# EAGLE library part CK1026 (library custom)
3 Poles 4 Ways Rotary switch
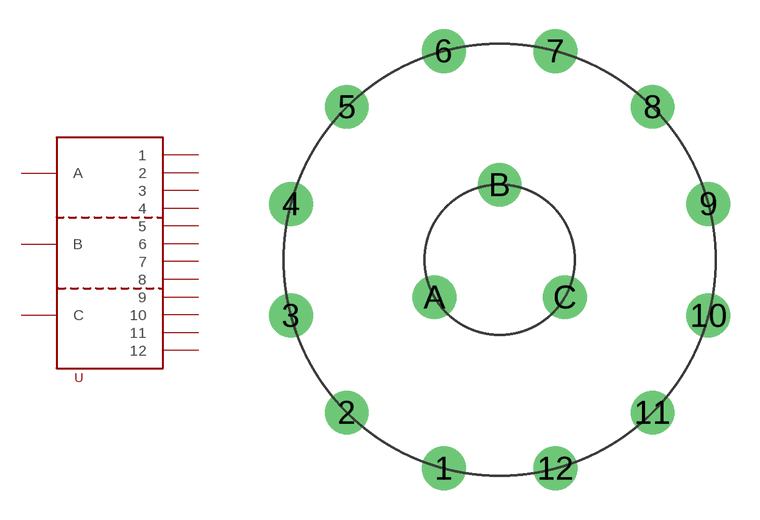
[diagram p8: symbol with the pads of CK1026; footprint CK1026]

Designator prefix -

## CK1026  [CK1026]
1  1
2  2
3  3
4  4
5  5
6  6
7  7
8  8
9  9
10  10
11  11
12  12
A  A
B  B
C  C

## Footprint CK1026 (pad centres in mm)
drill 1.5: 1 -2.87,-10.72; 2 -7.85,-7.85; 3 -10.72,-2.87; 4 -10.72,2.87; 5 -7.85,7.85; 6 -2.87,10.72; 7 2.87,10.72; 8 7.85,7.85; 9 10.72,2.87; 10 10.72,-2.87; 11 7.85,-7.85; 12 2.87,-10.72; A -3.35,-1.925; B 0,3.85; C 3.35,-1.925